# Altium schematic symbol library FPGA开发板.SchLib: 1 symbol
Pins are listed as number, name and electrical type; pins without a type are passive.

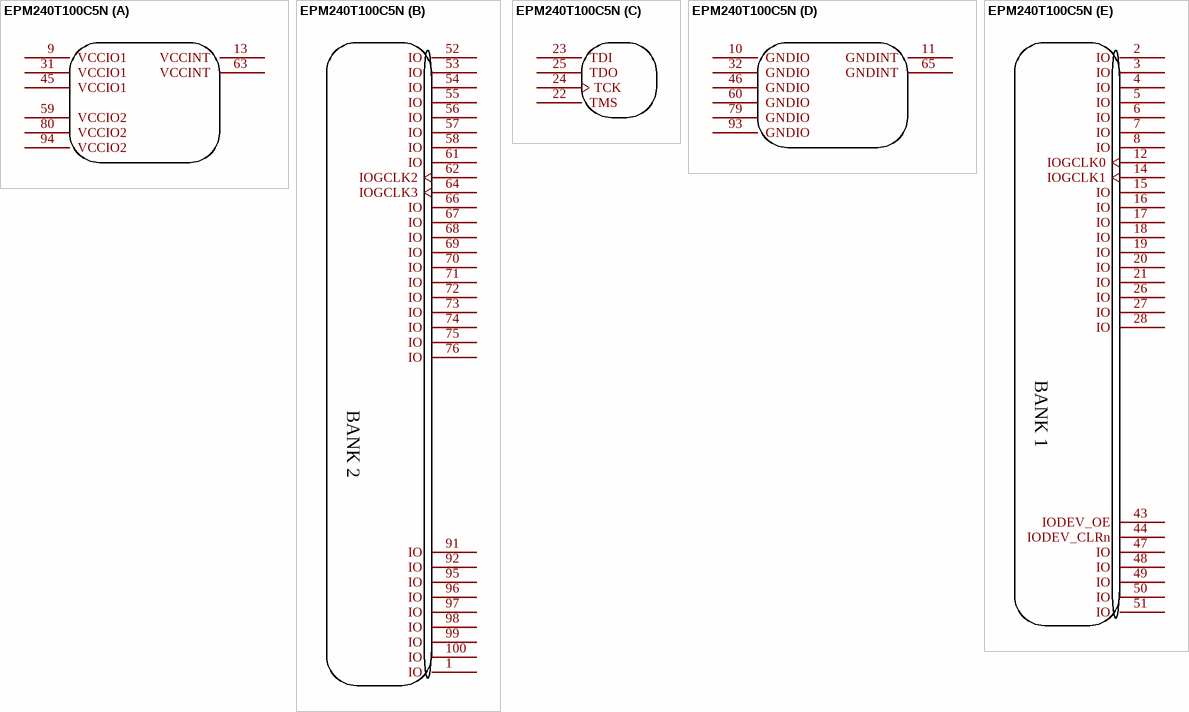
[diagram p0: symbol EPM240T100C5N]

## EPM240T100C5N
designator ?  (value not drawn)
Designer: U?; Symbol: EPM240T100C5N; Device: EPM240T100C5N
part A pins: 9 VCCIO1, 13 VCCINT, 31 VCCIO1, 45 VCCIO1, 59 VCCIO2, 63 VCCINT, 80 VCCIO2, 94 VCCIO2
part B pins: 1 IO, 52 IO, 53 IO, 54 IO, 55 IO, 56 IO, 57 IO, 58 IO, 61 IO, 62 IOGCLK2, 64 IOGCLK3, 66 IO, 67 IO, 68 IO, 69 IO, 70 IO, 71 IO, 72 IO, 73 IO, 74 IO, 75 IO, 76 IO, 77 IO hidden, 78 IO hidden, 81 IO hidden, 82 IO hidden, 83 IO hidden, 84 IO hidden, 85 IO hidden, 86 IO hidden, 87 IO hidden, 88 IO hidden, 89 IO hidden, 90 IO hidden, 91 IO, 92 IO, 95 IO, 96 IO, 97 IO, 98 IO, 99 IO, 100 IO
part C pins: 22 TMS, 23 TDI, 24 TCK, 25 TDO
part D pins: 10 GNDIO, 11 GNDINT, 32 GNDIO, 46 GNDIO, 60 GNDIO, 65 GNDINT, 79 GNDIO, 93 GNDIO
part E pins: 2 IO, 3 IO, 4 IO, 5 IO, 6 IO, 7 IO, 8 IO, 12 IOGCLK0, 14 IOGCLK1, 15 IO, 16 IO, 17 IO, 18 IO, 19 IO, 20 IO, 21 IO, 26 IO, 27 IO, 28 IO, 29 IO hidden, 30 IO hidden, 33 IO hidden, 34 IO hidden, 35 IO hidden, 36 IO hidden, 37 IO hidden, 38 IO hidden, 39 IO hidden, 40 IO hidden, 41 IO hidden, 42 IO hidden, 43 IODEV_OE, 44 IODEV_CLRn, 47 IO, 48 IO, 49 IO, 50 IO, 51 IO
part B text: BANK 2
part E text: BANK 1